# Altium footprint library DSUB9-F180.PcbLib: 1 footprints
Each footprint in its own frame and in the unit in brackets; x right, y up, seen from the top. Pads: shape width x height; smd on the part's side, far side on the other; paste and mask are expansions set on the pad; w line width, h text height; cw(c..) or ccw(c..) is an arc to the next point about the centre after c.
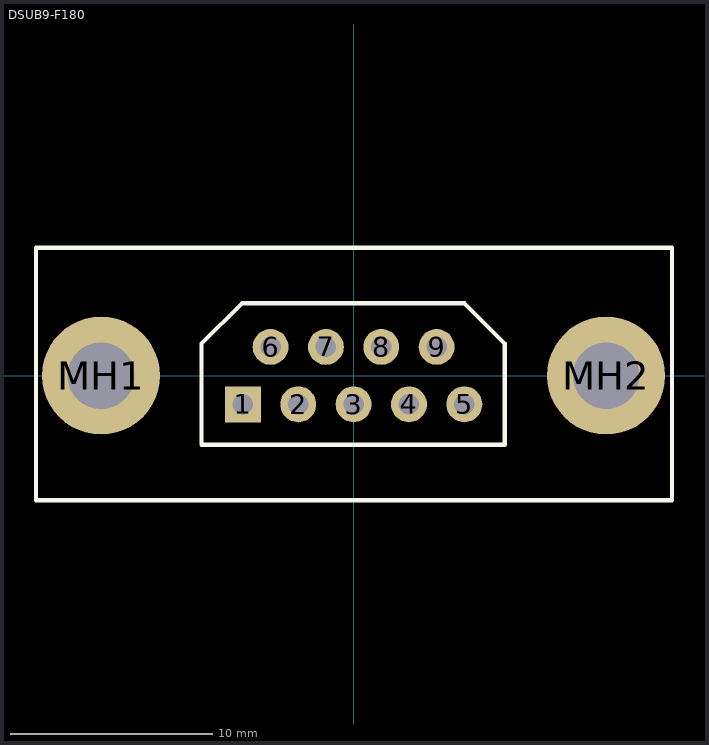
[diagram p0: the footprint, top view; thin cyan lines are the x and y axes]

## DSUB9-F180 [mil]
pads (11):
  rect 70x70 hole 40: 1(-215.75,-55.91)
  round 70 hole 40: 2(-107.87,-55.91) 3(0,-55.91) 4(107.87,-55.91) 5(215.75,-55.91) 6(-161.81,55.91) 7(-53.94,55.91) 8(53.94,55.91) 9(161.81,55.91)
  round 230 hole 130: MH1(-492.13,0) MH2(492.13,0)
Top Overlay:
  lines w8: -619.29,-242.91 620.87,-242.91 620.87,249.21 -619.29,249.21 -619.29,-242.91 ; -296.06,-134.65 294.49,-134.65 294.49,62.2 215.75,140.94 -217.32,140.94 -296.06,62.2 -296.06,-134.65